# Altium footprint library ic_io_interface.PcbLib: 4 footprints
Each footprint in its own frame and in the unit in brackets; x right, y up, seen from the top. Pads: shape width x height; smd on the part's side, far side on the other; paste and mask are expansions set on the pad; w line width, h text height; cw(c..) or ccw(c..) is an arc to the next point about the centre after c.
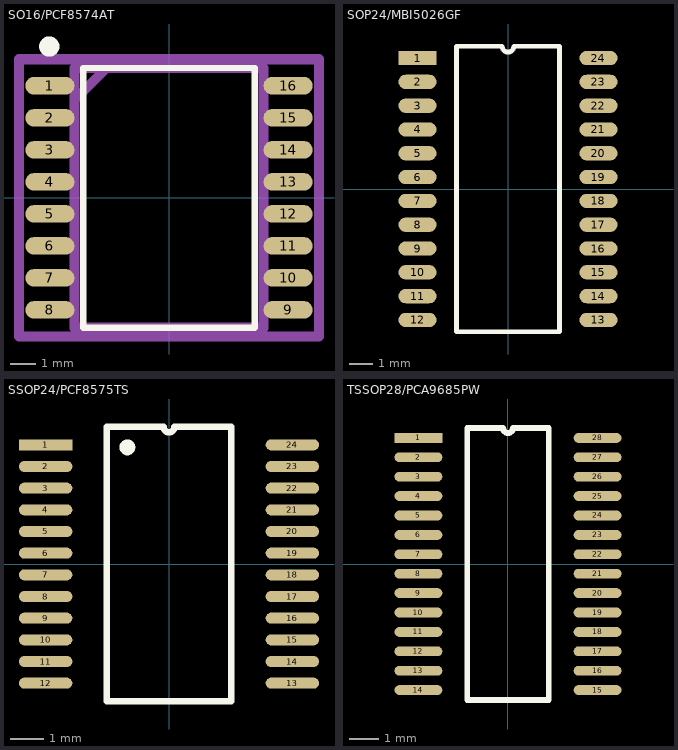
[diagram p0: the footprints below, top view; thin cyan lines are the x and y axes]

## SO16/PCF8574AT [mm]
pads (16):
  oval 1.95x0.7 smd: 1(-4.725,4.445) 2(-4.725,3.175) 3(-4.725,1.905) 4(-4.725,0.635) 5(-4.725,-0.635) 6(-4.725,-1.905) 7(-4.725,-3.175) 8(-4.725,-4.445) 9(4.725,-4.445) 10(4.725,-3.175) 11(4.725,-1.905) 12(4.725,-0.635) 13(4.725,0.635) 14(4.725,1.905) 15(4.725,3.175) 16(4.725,4.445)
Top Overlay:
  circle w0.4: c-4.75,6 r0.2
  lines w0.25: -3.4,-5.15 3.4,-5.15 3.4,5.15 -3.4,5.15 -3.4,-5.15
Mechanical 13:
  lines w0.406: -3.75,3.88 -2.48,5.15 ; -3.75,-5.15 3.75,-5.15 3.75,5.15 -3.75,5.15 -3.75,-5.15
Mechanical 15:
  lines w0.406: -5.95,-5.5 5.95,-5.5 5.95,5.5 -5.95,5.5 -5.95,-5.5
3D body "PCF8574AT_3,512.stp": height 2.65, standoff 0, extent -5.162,-5.15 5.162,5.15

## SOP24/MBI5026GF [mm]
pads (24):
  rect 1.6x0.6 smd: 1(-3.8,5.5)
  oval 1.6x0.6 smd: 2(-3.8,4.5) 3(-3.8,3.5) 4(-3.8,2.5) 5(-3.8,1.5) 6(-3.8,0.5) 7(-3.8,-0.5) 8(-3.8,-1.5) 9(-3.8,-2.5) 10(-3.8,-3.5) 11(-3.8,-4.5) 12(-3.8,-5.5) 13(3.8,-5.5) 14(3.8,-4.5) 15(3.8,-3.5) 16(3.8,-2.5) 17(3.8,-1.5) 18(3.8,-0.5) 19(3.8,0.5) 20(3.8,1.5) 21(3.8,2.5) 22(3.8,3.5) 23(3.8,4.5) 24(3.8,5.5)
Top Overlay:
  lines w0.2: -2.165,-6 -2.165,6 -0.25,6 ccw(c0,6) 0.25,6 2.165,6 2.165,-6 -2.165,-6
3D body "User Library-SOP24L.step": height 1.65, standoff 0, extent -3.978,-6.5 3.978,6.5

## SSOP24/PCF8575TS [mm]
pads (24):
  rect 1.6x0.33 smd: 1(-3.7,3.575)
  oval 1.6x0.33 smd: 2(-3.7,2.925) 3(-3.7,2.275) 4(-3.7,1.625) 5(-3.7,0.975) 6(-3.7,0.325) 7(-3.7,-0.325) 8(-3.7,-0.975) 9(-3.7,-1.625) 10(-3.7,-2.275) 11(-3.7,-2.925) 12(-3.7,-3.575) 13(3.7,-3.575) 14(3.7,-2.925) 15(3.7,-2.275) 16(3.7,-1.625) 17(3.7,-0.975) 18(3.7,-0.325) 19(3.7,0.325) 20(3.7,0.975) 21(3.7,1.625) 22(3.7,2.275) 23(3.7,2.925) 24(3.7,3.575)
Top Overlay:
  circle w0.254: c-1.25,3.5 r0.112
  lines w0.2: -1.865,-4.116 1.865,-4.116 1.865,4.115 0.162,4.115 cw(c0,4.115) -0.163,4.115 -1.865,4.115 -1.865,-4.116
3D body "User Library-SOT340-1.STEP": height 1.85, standoff -0.05, extent -3.775,-4.116 3.775,4.116

## TSSOP28/PCA9685PW [mm]
pads (28):
  rect 1.6x0.33 smd: 1(-3,4.225)
  oval 1.6x0.33 smd: 2(-3,3.575) 3(-3,2.925) 4(-3,2.275) 5(-3,1.625) 6(-3,0.975) 7(-3,0.325) 8(-3,-0.325) 9(-3,-0.975) 10(-3,-1.625) 11(-3,-2.275) 12(-3,-2.925) 13(-3,-3.575) 14(-3,-4.225) 15(3,-4.225) 16(3,-3.575) 17(3,-2.925) 18(3,-2.275) 19(3,-1.625) 20(3,-0.975) 21(3,-0.325) 22(3,0.325) 23(3,0.975) 24(3,1.625) 25(3,2.275) 26(3,2.925) 27(3,3.575) 28(3,4.225)
Top Overlay:
  lines w0.2: -1.365,-4.55 1.365,-4.55 1.365,4.55 0.162,4.55 cw(c0,4.55) -0.162,4.55 -1.365,4.55 -1.365,-4.55
3D body "User Library-TSSOP-28.STEP": height 1.2, standoff 0, extent -3.2,-4.85 3.2,4.85